# Altium integrated library BA2AAPC-UL94V-0.IntLib: 1 symbol
Pins are listed as number, name and electrical type; pins without a type are passive.

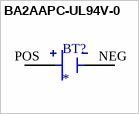
[diagram p0: symbol BA2AAPC-UL94V-0]

## BA2AAPC-UL94V-0
designator BT?
BATTERY HOLDER AA 2 CELL SMD TAB; MF: MPD; MP: BA2AAPC-UL94V-0; Value: *; Price: None; Package: None; Check_prices: https://www.snapeda.com/parts/BA2AAPC-UL94V-0/MPD/view-part/4389111/?ref=eda; Availability: Warning; SnapEDA_Link: https://www.snapeda.com/parts/BA2AAPC-UL94V-0/MPD/view-part/4389111/?ref=snap; Purchase-URL: https://pricing.snapeda.com/search/part/BA2AAPC-UL94V-0/?ref=eda
footprint BAT_BA2AAPC-UL94V-0
pins: NEG, POS